# Altium footprint library P78E05.PcbLib: 1 footprints
Each footprint in its own frame and in the unit in brackets; x right, y up, seen from the top. Pads: shape width x height; smd on the part's side, far side on the other; paste and mask are expansions set on the pad; w line width, h text height; cw(c..) or ccw(c..) is an arc to the next point about the centre after c.
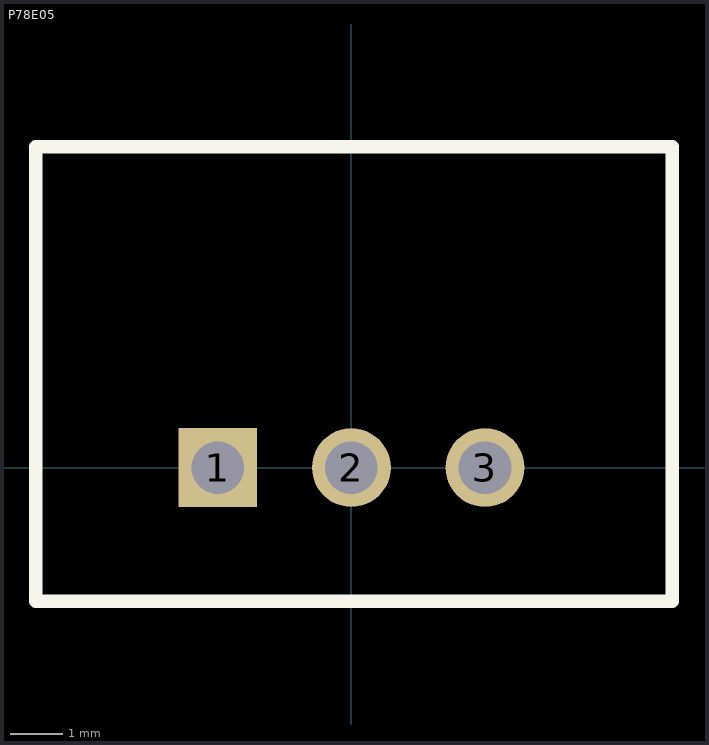
[diagram p0: the footprint, top view; thin cyan lines are the x and y axes]

## P78E05 [mm]
pads (3):
  rect 1.5x1.5 hole 1: 1(-2.54,0)
  round 1.5 hole 1: 2(0,0) 3(2.54,0)
Top Overlay:
  lines w0.254: -6,-2.54 6.1,-2.54 6.1,6.1 1.38,6.1 -1.38,6.1 -3.555,6.1 -5.145,6.1 -6,6.1 -6,-2.54
3D body: height 0.25, standoff 0, extent -5.8,-5.08 -5.8,-5.08
3D body: height 10.4, standoff 0.5, extent -5.8,-2.3 5.8,5.7
3D body: height 0.25, standoff 0, extent 6.8,7.9 6.8,7.9
3D body: height 0.5, standoff 0, extent 5.6,-2.3 5.8,5.7
3D body: height 0.5, standoff 0, extent -5.8,-2.3 -5.6,5.7